# EAGLE library part TSM3481CX6 (library Taiwan_Semiconductor_By_element14_Batch_1)
P-Channel MOSFET
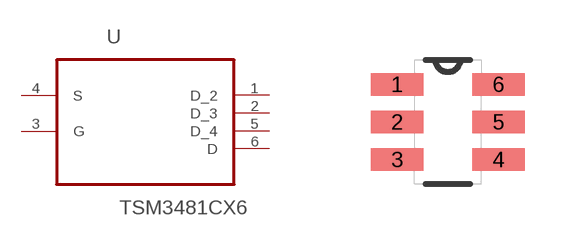
[diagram p10: symbol with the pads of SOT95P280X120-6N; footprint SOT95P280X120-6N]

Designator prefix U

## TSM3481CX6 (MPN: TSM3481CX6; OC_FARNELL: 1864596; OC_NEWARK: 27T3008; P1I: o; PACKAGE: SOT-6; SUPPLIER: Taiwan Semiconductors)  [SOT95P280X120-6N]
1  D_2  pas
2  D_3  pas
3  G  pas
4  S  pas
5  D_4  pas
6  D  pas

## Footprint SOT95P280X120-6N (pad centres in mm)
smd 1.321 x 0.559: 1 -1.27,0.94; 2 -1.27,0; 3 -1.27,-0.94; 4 1.27,-0.94; 5 1.27,0; 6 1.27,0.94